# EAGLE library part ADC124S01 (library adc124s021cimm)
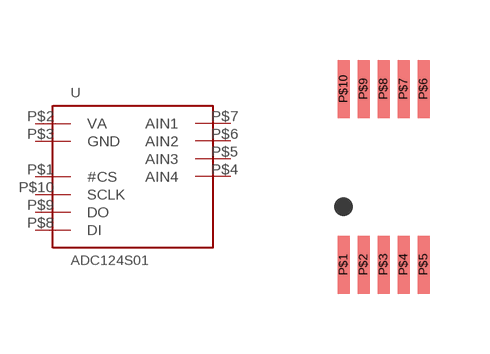
[diagram p0: symbol with the pads of ADC124S021VSSOP; footprint ADC124S021VSSOP]

Designator prefix -

## ADC124S01  [ADC124S021VSSOP]
P$1  #CS
P$2  VA  sup
P$3  GND  sup
P$4  AIN4  in
P$5  AIN3  in
P$6  AIN2  in
P$7  AIN1  in
P$8  DI
P$9  DO
P$10  SCLK

## Footprint ADC124S021VSSOP (pad centres in mm)
smd 0.3 x 1.45: P$1 -1,-2.2; P$2 -0.5,-2.2; P$3 0,-2.2; P$4 0.5,-2.2; P$5 1,-2.2; P$6 1,2.2; P$7 0.5,2.2; P$8 0,2.2; P$9 -0.5,2.2; P$10 -1,2.2